# Altium footprint library RS485_Gateway.PcbLib: 6 footprints
Each footprint in its own frame and in the unit in brackets; x right, y up, seen from the top. Pads: shape width x height; smd on the part's side, far side on the other; paste and mask are expansions set on the pad; w line width, h text height; cw(c..) or ccw(c..) is an arc to the next point about the centre after c.
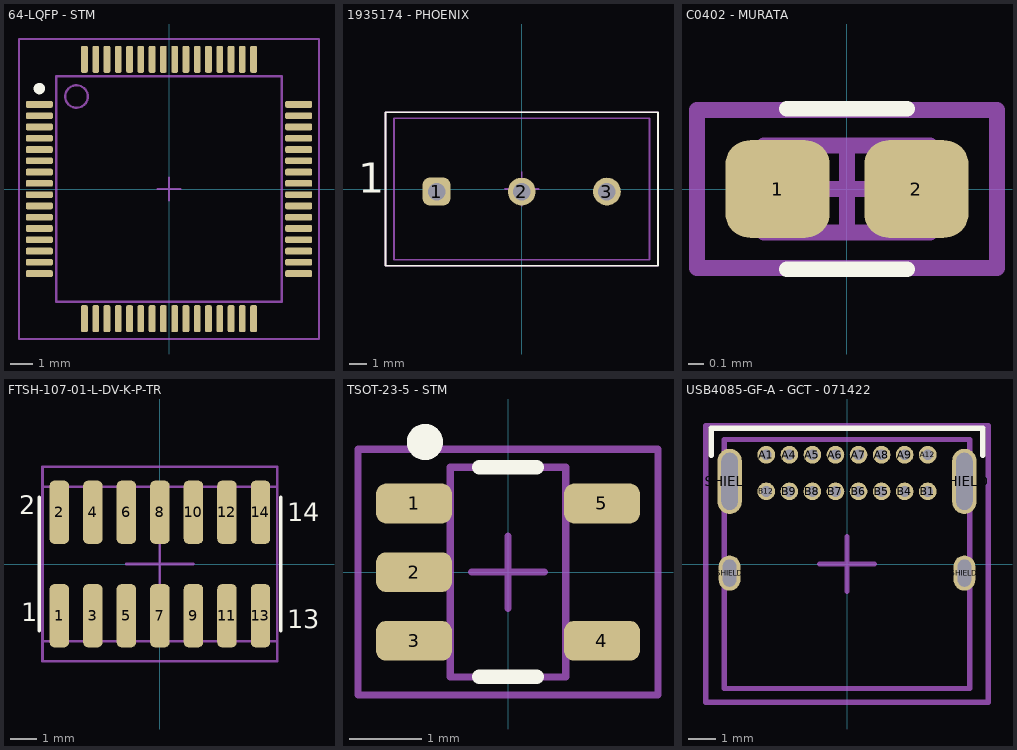
[diagram p0: the footprints below, top view; thin cyan lines are the x and y axes]

## 64-LQFP - STM [mm] "CQFP, 64-Leads, Body 12.00x12.00mm, Pitch 0.50mm, IPC Medium Density"
height 1.6
pads (64):
  rrect50% 1.2x0.3 smd: 1(-5.75,3.75) 2(-5.75,3.25) 3(-5.75,2.75) 4(-5.75,2.25) 5(-5.75,1.75) 6(-5.75,1.25) 7(-5.75,0.75) 8(-5.75,0.25) 9(-5.75,-0.25) 10(-5.75,-0.75) 11(-5.75,-1.25) 12(-5.75,-1.75) 13(-5.75,-2.25) 14(-5.75,-2.75) 15(-5.75,-3.25) 16(-5.75,-3.75) 33(5.75,-3.75) 34(5.75,-3.25) 35(5.75,-2.75) 36(5.75,-2.25) 37(5.75,-1.75) 38(5.75,-1.25) 39(5.75,-0.75) 40(5.75,-0.25) 41(5.75,0.25) 42(5.75,0.75) 43(5.75,1.25) 44(5.75,1.75) 45(5.75,2.25) 46(5.75,2.75) 47(5.75,3.25) 48(5.75,3.75)
  rrect50% 0.3x1.2 smd: 17(-3.75,-5.75) 18(-3.25,-5.75) 19(-2.75,-5.75) 20(-2.25,-5.75) 21(-1.75,-5.75) 22(-1.25,-5.75) 23(-0.75,-5.75) 24(-0.25,-5.75) 25(0.25,-5.75) 26(0.75,-5.75) 27(1.25,-5.75) 28(1.75,-5.75) 29(2.25,-5.75) 30(2.75,-5.75) 31(3.25,-5.75) 32(3.75,-5.75) 49(3.75,5.75) 50(3.25,5.75) 51(2.75,5.75) 52(2.25,5.75) 53(1.75,5.75) 54(1.25,5.75) 55(0.75,5.75) 56(0.25,5.75) 57(-0.25,5.75) 58(-0.75,5.75) 59(-1.25,5.75) 60(-1.75,5.75) 61(-2.25,5.75) 62(-2.75,5.75) 63(-3.25,5.75) 64(-3.75,5.75)
Top Overlay:
  circle w0.25: c-5.75,4.45 r0.125
Top 3D Body:
  circle w0.1: c-4.1,4.1 r0.5
  lines w0.1: -5,-5 5,-5 5,5 -5,5 -5,-5
Top Courtyard:
  lines w0.1: -0.5,0 0.5,0 ; 0,-0.5 0,0.5 ; -6.65,-6.65 6.65,-6.65 6.65,6.65 -6.65,6.65 -6.65,-6.65
Top Designator:
  text ".Designator" at -2.499,-0.167 h0.5
3D body "64-LQFP - STM - 040825.step": height 1.55, standoff 0, extent -6,-6 6,6

## 1935174 - PHOENIX [mm]
pads (3):
  rrect50% 1.63x1.63 hole 1.03: 1(-5,-0.15)
  round 1.63 hole 1.03: 2(0,-0.15) 3(5,-0.15)
Top Overlay:
  lines w0.1: -8,-4.5 8,-4.5 8,4.5 -8,4.5 -8,-4.5
  text "1" at -9.61,-0.797 h3
Top 3D Body:
  lines w0.1: -7.495,-4.15 7.5,-4.15 7.5,4.15 -7.495,4.15 -7.495,-4.15
Top Courtyard:
  lines w0.1: -1,0 1,0 ; 0,-1 0,1 ; -8,-4.5 8,-4.5 8,4.5 -8,4.5 -8,-4.5
Top Designator:
  text ".Designator" at -7.6,0.396 h1.52
3D body "pxc_1935174_05_02_PT-1-5-3-5-0-H_3D.stp": height 11.3, standoff -3.5, extent -8.062,-4.155 7.608,4.845

## C0402 - MURATA [mm]
height 0.55
pads (2):
  rrect50% 0.66x0.62 smd: 1(-0.44,0) 2(0.44,0)
Top Overlay:
  lines w0.1: -0.381,-0.508 0.381,-0.508 ; -0.381,0.508 0.381,0.508
Top 3D Body:
  lines w0.1: -0.525,-0.275 -0.525,0.275 0.525,0.275 0.525,-0.275 -0.525,-0.275
Top Courtyard:
  lines w0.1: -0.275,0 0.275,0 ; 0,-0.275 0,0.275 ; -0.95,-0.5 -0.95,0.5 0.95,0.5 0.95,-0.5 -0.95,-0.5
Top Designator:
  text ".Designator" at -1.262,-0.096 h0.25
3D body "C0402 - MURATA.step": height 0.55, standoff 0, extent -0.525,-0.275 0.525,0.275

## FTSH-107-01-L-DV-K-P-TR [mil]
pads (14):
  rrect50% 29x94.25 smd: 1(-150,-77.13) 2(-150,77.13) 3(-100,-77.13) 4(-100,77.13) 5(-50,-77.13) 6(-50,77.13) 7(0,-77.13) 8(0,77.13) 9(50,-77.13) 10(50,77.13) 11(100,-77.13) 12(100,77.13) 13(150,-77.13) 14(150,77.13)
Top Overlay:
  lines w5: -180,-100 -180,100 ; 180,-100 180,100
  text "14" at 190,54.16 h47.24
  text "13" at 190,-105.84 h47.24
  text "2" at -210.14,64.81 h47.24
  text "1" at -206.63,-95.19 h47.24
Top 3D Body:
  lines w3.94: -175,-115 175,-115 175,115 -175,115 -175,-115
  text "1" at -165.53,-102.68 h39.37
  text "2" at -168.46,77.32 h39.37
  text "13" at 132.57,-102.45 h39.37
  text "14" at 132.22,77.32 h39.37
Top Courtyard:
  lines w3.94: -50,0 50,0 ; 0,-50 0,50 ; -175,-145 175,-145 175,0 175,145 -175,145 -175,0 -175,-145
Top Designator:
  text ".Designator" at -197.29,-13.62 h39.37
3D body "FTSH-107-01-L-DV-K-P-TR.step": height 241.5, standoff 0.5, extent -175,-115 175,115

## TSOT-23-5 - STM [mm]
height 1
pads (5):
  rrect50% 1.05x0.55 smd: 1(-1.3,0.95) 2(-1.3,0) 3(-1.3,-0.95) 4(1.3,-0.95) 5(1.3,0.95)
Top Overlay:
  circle w0.25: c-1.15,1.8 r0.125
  lines w0.2: -0.4,-1.45 0.4,-1.45 ; -0.4,1.45 0.4,1.45
Top 3D Body:
  lines w0.1: -0.8,-1.45 0.8,-1.45 0.8,1.45 -0.8,1.45 -0.8,-1.45
  text "1" at -0.635,0.762 h0.5
Top Courtyard:
  lines w0.1: -0.5,0 0.5,0 ; 0,-0.5 0,0.5 ; -2.075,-1.7 2.075,-1.7 2.075,1.7 -2.075,1.7 -2.075,-1.7
Top Designator:
  text ".Designator" at 0.433,-2.599 h0.5
3D body "TSOT-23-5 - STM.step": height 1.1, standoff 0, extent -1.4,-1.45 1.4,1.45

## USB4085-GF-A - GCT - 071422 [mm] "USB4085-GF-A"
height 8
pads (20):
  round 0.65 hole 0.4: A1(-2.975,4.025) A4(-2.125,4.025) A5(-1.275,4.025) A6(-0.425,4.025) A7(0.425,4.025) A8(1.275,4.025) A9(2.125,4.025) A12(2.975,4.025) B1(2.975,2.675) B4(2.125,2.675) B5(1.275,2.675) B6(0.425,2.675) B7(-0.425,2.675) B8(-1.275,2.675) B9(-2.125,2.675) B12(-2.975,2.675)
  oval 0.8x1.3 hole 0.5 slot 1 at 90 deg: SHIELD(-4.325,-0.335) SHIELD(4.325,-0.335)
  oval 0.9x2.4 hole 0.6 slot 2.1 at 90 deg: SHIELD(-4.325,3.045) SHIELD(4.325,3.045)
Top Overlay:
  lines w0.2: -5,4 -5,5 5,5 5,4
Top 3D Body:
  lines w0.2: -4.515,-4.585 4.515,-4.585 4.515,4.585 -4.515,4.585 -4.515,-4.585
Top Courtyard:
  lines w0.2: -1,0 1,0 ; 0,-1 0,1 ; -5.2,-5.1 5.2,-5.1 5.2,5.1 -5.2,5.1 -5.2,-5.1
Top Designator:
  text ".Designator" at -4.999,-0.333 h1
3D body "USB4085-GF-A.stp": height 3.48, standoff -2.08, extent -4.515,-4.585 4.515,4.585